# EAGLE library part CONN-JTAG (library stm32f1xx)
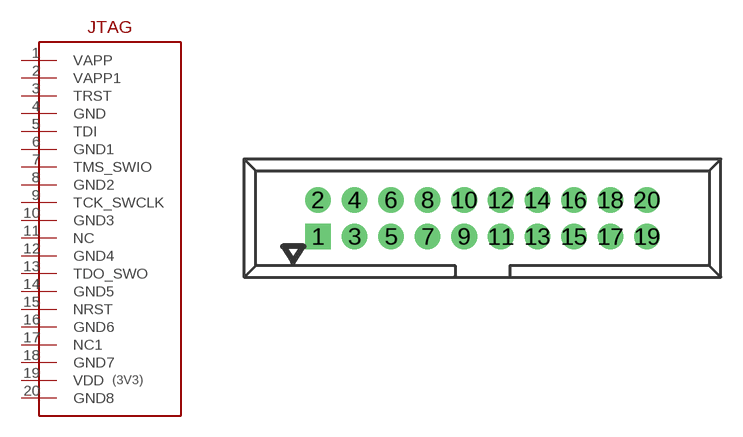
[diagram p2: symbol with the pads of CONN-JTAG; footprint CONN-JTAG]

Designator prefix -

## CONN-JTAG  [CONN-JTAG]
1  VAPP  pas
2  VAPP1  pas
3  TRST  pas
4  GND  pas
5  TDI  pas
6  GND1  pas
7  TMS_SWIO  pas
8  GND2  pas
9  TCK_SWCLK  pas
10  GND3  pas
11  NC  pas
12  GND4  pas
13  TDO_SWO  pas
14  GND5  pas
15  NRST  pas
16  GND6  pas
17  NC1  pas
18  GND7  pas
19  VDD  pas
20  GND8  pas

## Footprint CONN-JTAG (pad centres in mm)
CONNECTOR series 057 contact pc board low profile headers straight
drill 1 pad 1.778 square: 1 -11.43,-1.27
drill 1 pad 1.778: 2 -11.43,1.27; 3 -8.89,-1.27; 4 -8.89,1.27; 5 -6.35,-1.27; 6 -6.35,1.27; 7 -3.81,-1.27; 8 -3.81,1.27; 9 -1.27,-1.27; 10 -1.27,1.27; 11 1.27,-1.27; 12 1.27,1.27; 13 3.81,-1.27; 14 3.81,1.27; 15 6.35,-1.27; 16 6.35,1.27; 17 8.89,-1.27; 18 8.89,1.27; 19 11.43,-1.27; 20 11.43,1.27